# Altium footprint library GPIO.PcbLib: 2 footprints
Each footprint in its own frame and in the unit in brackets; x right, y up, seen from the top. Pads: shape width x height; smd on the part's side, far side on the other; paste and mask are expansions set on the pad; w line width, h text height; cw(c..) or ccw(c..) is an arc to the next point about the centre after c.
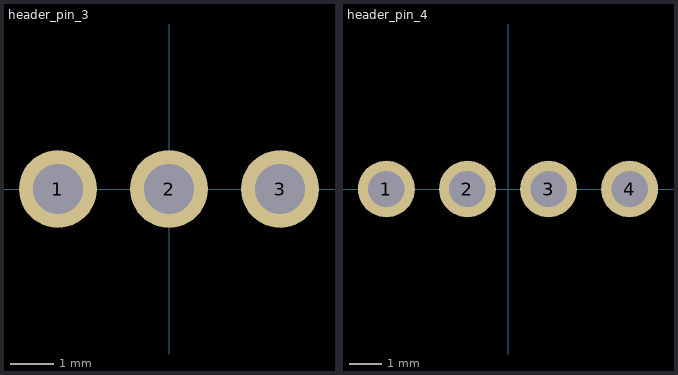
[diagram p0: the footprints below, top view; thin cyan lines are the x and y axes]

## header_pin_3 [mil]
pads (3):
  round 70 hole 45: 1(-100,0) 2(0,0) 3(100,0)
3D body "61300311121_Download_STP_61300311121_rev1.stp": height 336.22, standoff -118.11, extent -149.99,-49.99 150.01,50.01

## header_pin_4 [mil]
pads (4):
  round 70 hole 45: 1(-150,0) 2(-50,0) 3(50,0) 4(150,0)
Top Designator:
  text ".Designator" at -127.64,-12.5 h35
3D body "header_pin_4.stp": height 336.22, standoff -118.11, extent -199.99,-49.99 200.01,50.01